# Altium schematic symbol library NanoV3.3.SCHLIB: 17 symbols
Pins are listed as number, name and electrical type; pins without a type are passive.

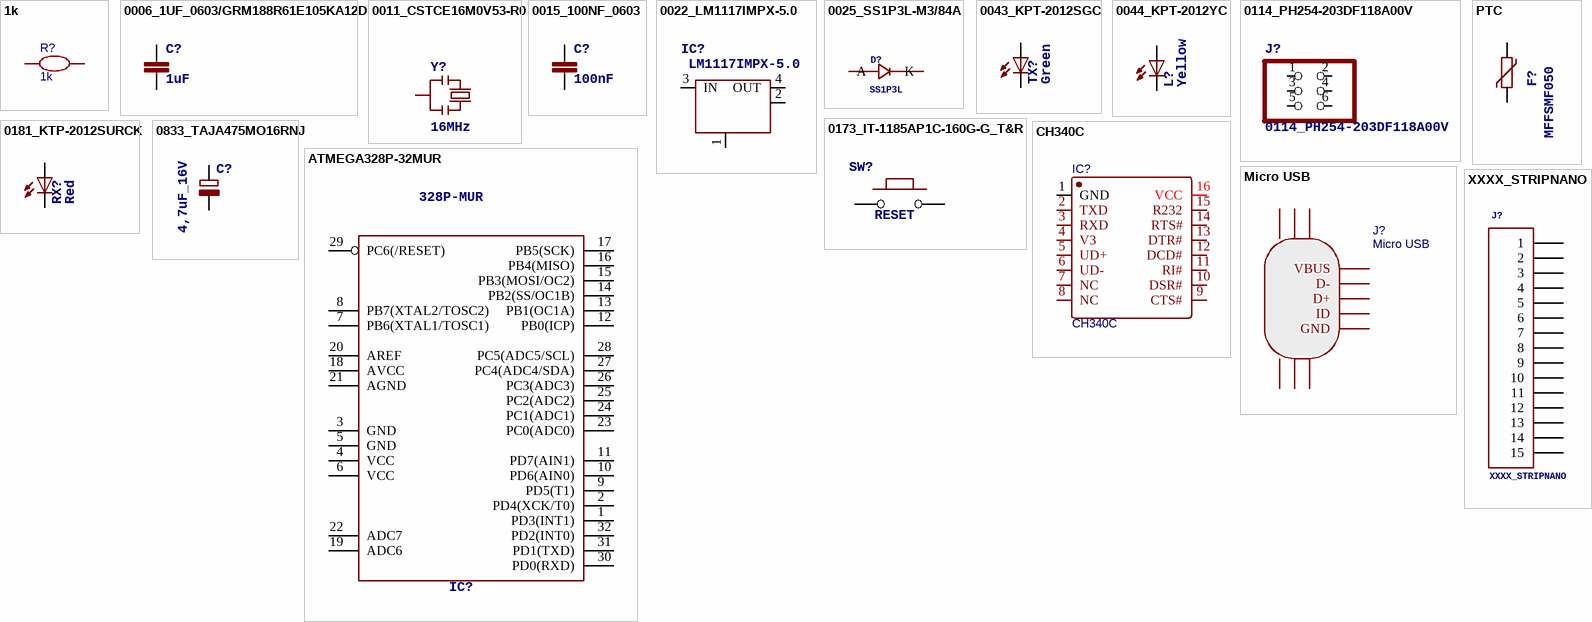
[diagram p0: symbols 1k to XXXX_STRIPNANO]

## 1k
designator R?
BOM_Manufacturer Part: R0603RXX102XF10LTS; BOM_Manufacturer: Shenzhen Eyang Tech Development; nameAlias: Value(Ω); Contributor: LCEDA_Lib; BOM_Supplier Part: C267568; BOM_Supplier: LCSC; spicePre: R; spiceSymbolName: R_0603_EU
footprint R0805 (Chip Resistor; Body 2.0 x 1.3 mm (LxW typ))
footprint R0805
footprint R0603
pins: 1, 2

## 0006_1UF_0603/GRM188R61E105KA12D
designator C?, comment 1uF
1uF 0603
footprint C0603-ROUND
pins: 1, 2

## 0011_CSTCE16M0V53-R0
designator Y?, comment 16MHz
16Mhz - SMD
footprint RESONATOR
pins: 1, 2, 3

## 0015_100NF_0603
designator C?, comment 100nF
100nF 0603 50V
footprint C0603-ROUND
pins: 1, 2

## 0022_LM1117IMPX-5.0
designator IC?, comment LM1117IMPX-5.0
Low-dropout linear regulator 5V  -LM1117IMPX-5.0
footprint LINEAR_SOT223
pins: 1 GND/ADJ, 2 OUT, 3 IN, 4 OUT

## 0025_SS1P3L-M3/84A
designator D?, comment SS1P3L
1A 30V Schottky Barrier Rectifiers -SS1P3L-M3/84A
footprint DO220AAL
pins: P$1 K, P$2 A

## 0043_KPT-2012SGC
designator TX?, comment Green
LED GREEN - SMD-0805
footprint CHIPLED_0805
pins: A, C

## 0044_KPT-2012YC
designator L?, comment Yellow
LED YELLOW - SMD - 0805
footprint CHIPLED_0805
pins: A, C

## 0114_PH254-203DF118A00V
designator J?
3x2 M V h 8,5 mm p2,54
footprint 2X03
pins: 1, 2, 3, 4, 5, 6

## 0173_IT-1185AP1C-160G-G_T&R
designator SW?, comment RESET
Pushbutton 4x3 SMD H2,5mm
footprint SMD_157SW
pins: 1, 2

## 0181_KTP-2012SURCK
designator RX?, comment Red
LED RED - SMD - 0805
footprint CHIPLED_0805
pins: A, C

## 0833_TAJA475MO16RNJ
designator C?, comment 4,7uF_16V
4,7uF
footprint TAN-A
pins: 1 +, 2 -

## ATMEGA328P-32MUR
designator IC?, comment 328P-MUR
8-bit Microcontroller with 32KBytes In-System Programmable Flash   ATMEGA328P-AU
footprint QFP80P900X900X120-32N
pins: 1 PD3(INT1), 2 PD4(XCK/T0), 3 GND, 4 VCC, 5 GND, 6 VCC, 7 PB6(XTAL1/TOSC1), 8 PB7(XTAL2/TOSC2), 9 PD5(T1), 10 PD6(AIN0), 11 PD7(AIN1), 12 PB0(ICP), 13 PB1(OC1A), 14 PB2(SS/OC1B), 15 PB3(MOSI/OC2), 16 PB4(MISO), 17 PB5(SCK), 18 AVCC, 19 ADC6, 20 AREF, 21 AGND, 22 ADC7, 23 PC0(ADC0), 24 PC1(ADC1), 25 PC2(ADC2), 26 PC3(ADC3), 27 PC4(ADC4/SDA), 28 PC5(ADC5/SCL), 29 PC6(/RESET), 30 PD0(RXD), 31 PD1(TXD), 32 PD2(INT0)

## CH340C
designator IC?
BOM_Manufacturer: WCH; BOM_Supplier: LCSC; BOM_Manufacturer Part: CH340C; spicePre: U; BOM_Supplier Part: C84681
footprint SOP-16_150MIL
pins: 1 GND, 2 TXD, 3 RXD, 4 V3, 5 UD+, 6 UD-, 7 NC, 8 NC, 9 CTS#, 10 DSR#, 11 RI#, 12 DCD#, 13 DTR#, 14 RTS#, 15 R232, 16 VCC

## Micro USB
designator J?
BOM_Manufacturer: LCSC; BOM_Manufacturer Part: micro 5P 0.2; BOM_Supplier: LCSC; spicePre: U; BOM_Supplier Part: C40945
footprint MICRO-USB-1
pins: 0 MTN4, 0 MTN3, 0 MTN2, 0 MTN1, 0 MTN5, 0 MTN6, 1 VBUS, 2 D-, 3 D+, 4 ID, 5 GND

## PTC
designator F?, comment MFFSMF050
SMD PTC
footprint 0603-1608X90N
pins: 1, 2

## XXXX_STRIPNANO
designator J?
Strip passo 2,54 a 15 pin  per Arduino Nano
footprint HEAD15-NOSS
pins: 1, 2, 3, 4, 5, 6, 7, 8, 9, 10, 11, 12, 13, 14, 15